# EAGLE library part 353 (library display-lcd-lxd)
4.5 Numerical Digit, .40" (10.16) Direct Drive Display Additional Descriptors: Low Battery, Continuity, -
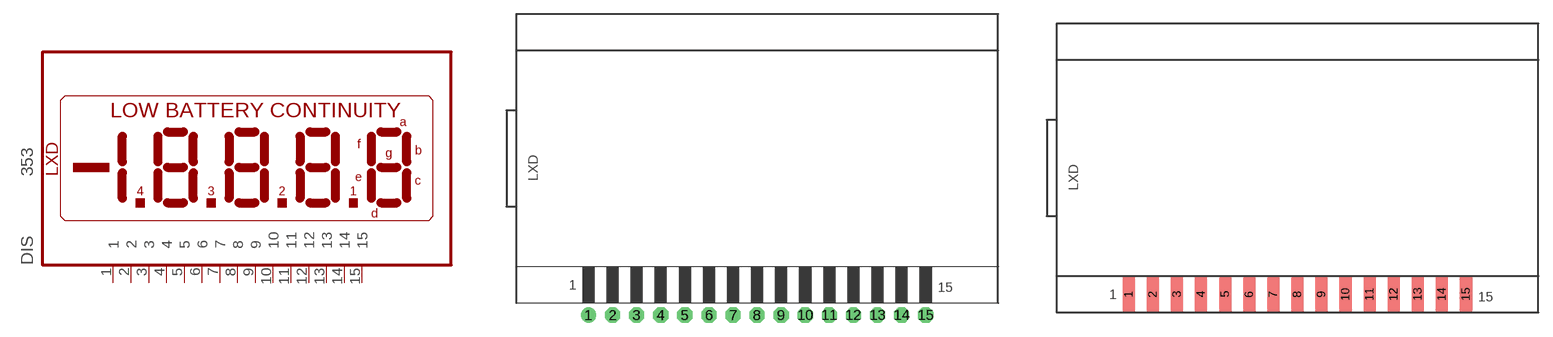
[diagram p30: symbol with the pads of 353-D; footprints 353-D, 353-E]

Designator prefix DIS

## 353DIP  [353-D]
1  1  pas
2  2  pas
3  3  pas
4  4  pas
5  5  pas
6  6  pas
7  7  pas
8  8  pas
9  9  pas
10  10  pas
11  11  pas
12  12  pas
13  13  pas
14  14  pas
15  15  pas

## 353SMD  [353-E]
Pads as for 353-D

## Footprint 353-D (pad centres in mm)
Glass Size: 2.00" x 1.20" &nbsp &nbsp &nbsp &nbsp &nbsp &nbsp &nbsp &nbsp &nbsp (50.80 x 30.48)
drill 0.813 pad 1.6: 1 -17.78,-16.51
drill 0.813 pad 1.6 octagon: 2 -15.24,-16.51; 3 -12.7,-16.51; 4 -10.16,-16.51; 5 -7.62,-16.51; 6 -5.08,-16.51; 7 -2.54,-16.51; 8 0,-16.51; 9 2.54,-16.51; 10 5.08,-16.51; 11 7.62,-16.51; 12 10.16,-16.51; 13 12.7,-16.51; 14 15.24,-16.51; 15 17.78,-16.51

## Footprint 353-E (pad centres in mm)
Glass Size: 2.00" x 1.20" &nbsp &nbsp &nbsp &nbsp &nbsp &nbsp &nbsp &nbsp &nbsp (50.80 x 30.48)
smd 1.27 x 3.81: 1 -17.78,-13.335; 2 -15.24,-13.335; 3 -12.7,-13.335; 4 -10.16,-13.335; 5 -7.62,-13.335; 6 -5.08,-13.335; 7 -2.54,-13.335; 8 0,-13.335; 9 2.54,-13.335; 10 5.08,-13.335; 11 7.62,-13.335; 12 10.16,-13.335; 13 12.7,-13.335; 14 15.24,-13.335; 15 17.78,-13.335